# Altium footprint library KFA-1016-10-16-2P.PCBLIB: 1 footprints
Each footprint in its own frame and in the unit in brackets; x right, y up, seen from the top. Pads: shape width x height; smd on the part's side, far side on the other; paste and mask are expansions set on the pad; w line width, h text height; cw(c..) or ccw(c..) is an arc to the next point about the centre after c.
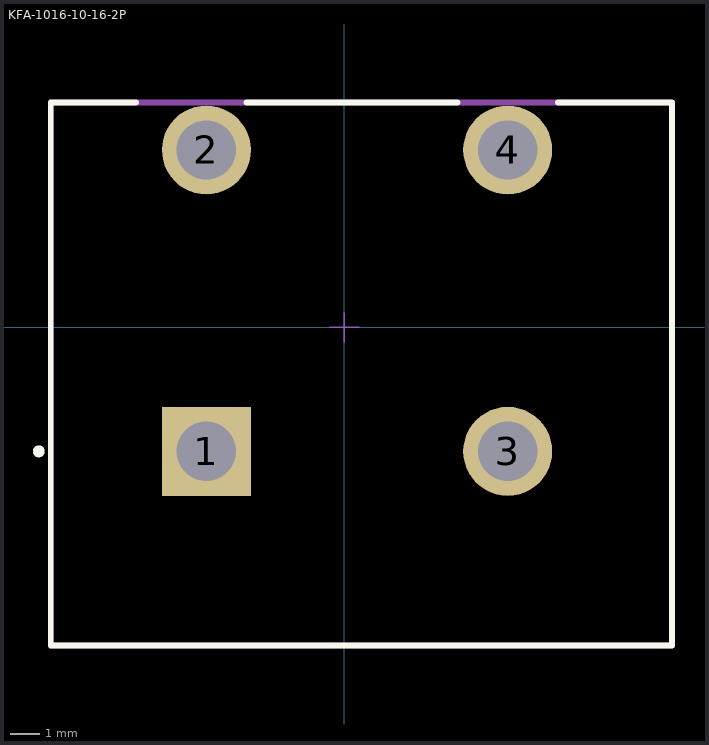
[diagram p0: the footprint, top view; thin cyan lines are the x and y axes]

## KFA-1016-10-16-2P [mm]
pads (4):
  rect 3x3 hole 2: 1(-4.654,-4.179)
  round 3 hole 2: 2(-4.654,5.981) 3(5.506,-4.179) 4(5.506,5.981)
Top Overlay:
  lines w0.2: -7.025,7.581 -9.9,7.581 -9.9,-10.725 11.05,-10.725 11.05,7.581 7.199,7.581 ; -3.299,7.581 3.813,7.581 ; -10.404,-4.179 cw(c-10.304,-4.179) -10.204,-4.179 cw(c-10.304,-4.179) -10.404,-4.179
Top Assembly:
  lines w0.2: -9.9,-10.725 11.05,-10.725 11.05,7.581 -9.9,7.581 -9.9,-10.725
Top Courtyard:
  lines w0.2: -9.9,-10.725 11.05,-10.725 11.05,7.581 -9.9,7.581 -9.9,-10.725
Top Designator:
  text ".Designator" at -1.691,-1.441 h1.02
Top Component Center:
  lines w0.05: -0.5,0 0.5,0 ; 0,-0.5 0,0.5
3D body "Kaan_park.STEP": height 30.1, standoff -2.4, extent -9.87,-10.625 10.95,7.675